# Altium schematic symbol library AD9835.SchLib: 1 symbol
Pins are listed as number, name and electrical type; pins without a type are passive.

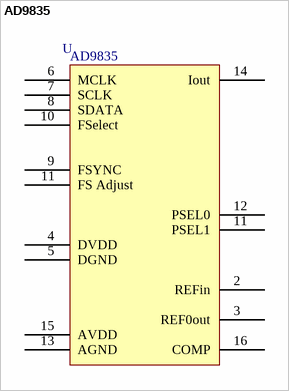
[diagram p0: symbol AD9835]

## AD9835
designator U  value AD9835  (hidden comment: *)
Manufacturer: Analog Device; Manufacturer Code: AD9835BRUZ; Farnell Code: 9604049; Unit Price: 11,42 €
footprint TSSOP16
pins: 2 REFin, 3 REF0out, 4 DVDD, 5 DGND, 6 MCLK, 7 SCLK, 8 SDATA, 9 FSYNC, 10 FSelect, 11 FS Adjust, 11 PSEL1, 12 PSEL0, 13 AGND, 14 Iout, 15 AVDD, 16 COMP